# Altium integrated library TI Data Converters Analog to Digital Converter.IntLib: 2197 symbols (part 145 of 168)
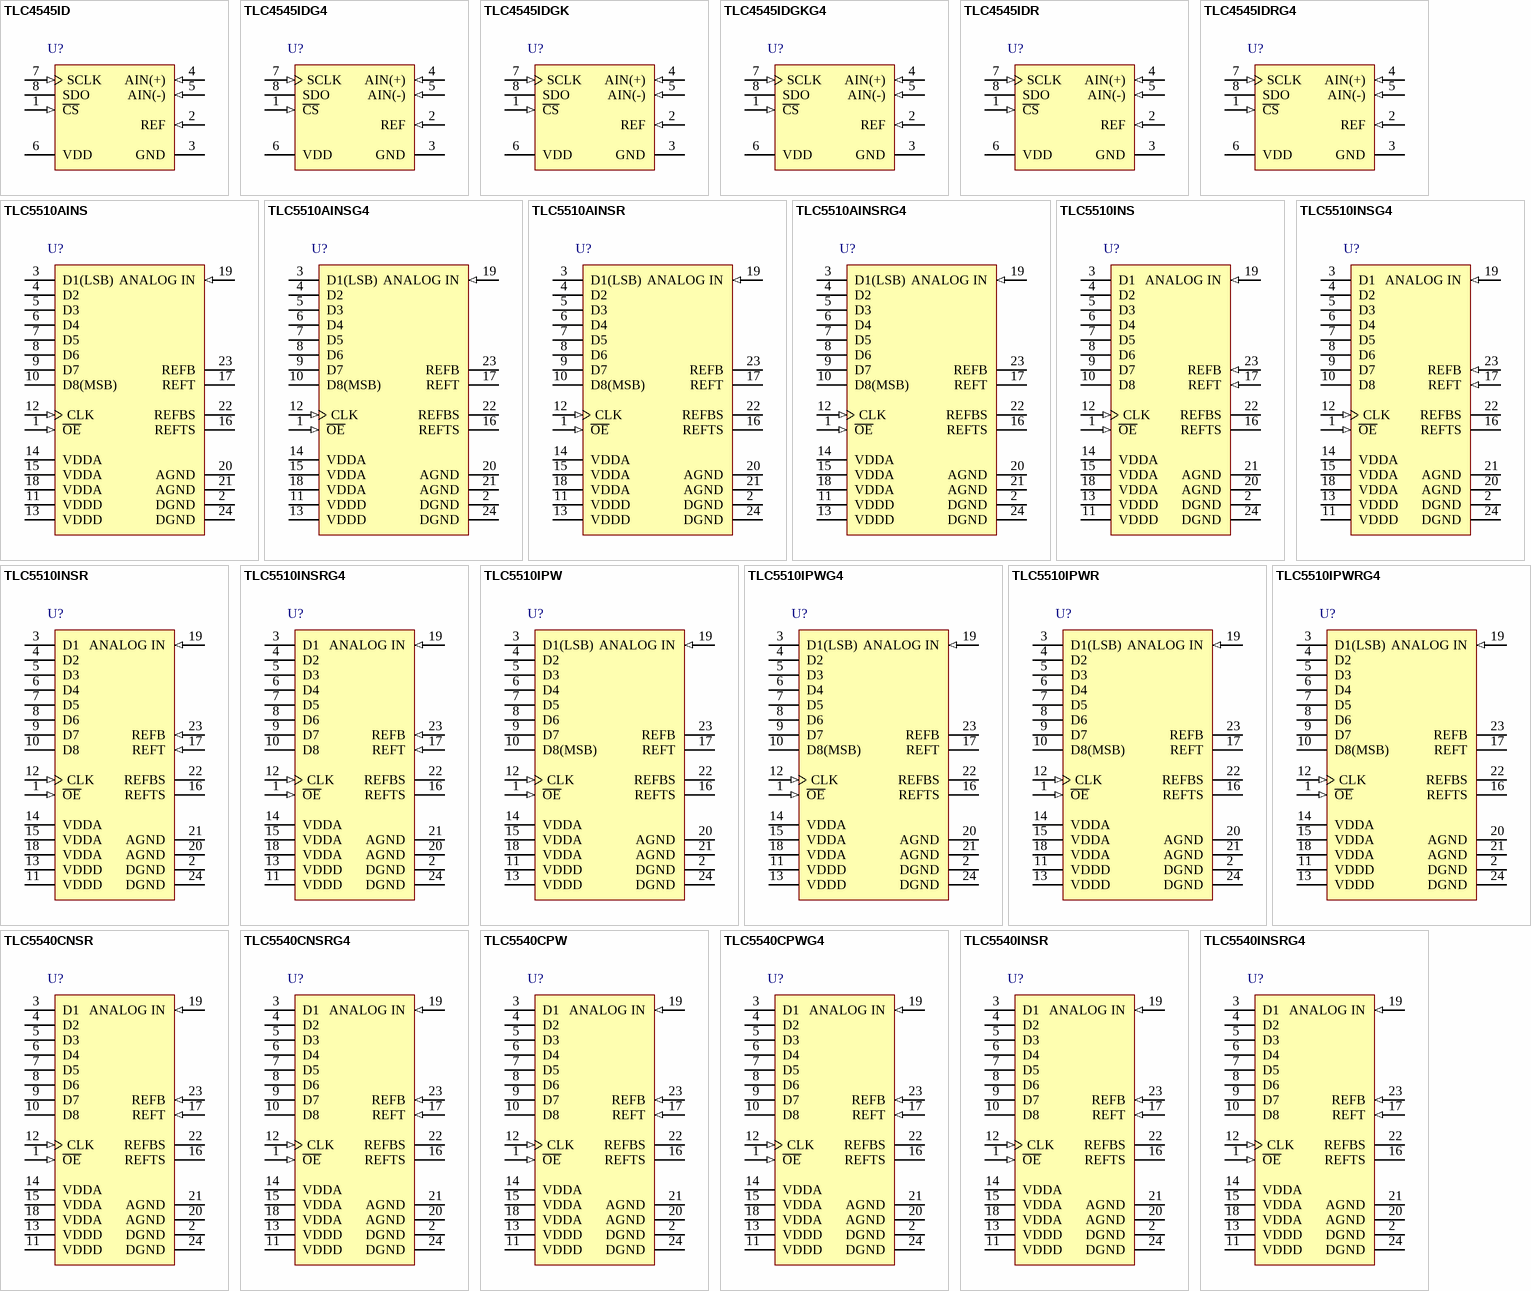
[diagram p270: symbols TLC4545ID to TLC5540INSRG4]

## TLC5510INS
designator U?
8-Bit, 20 MSPS ADC Single Channel, Internal S&H, Low Power, -20 to 75 degC, 24-pin SOP (NS24), Green (RoHS & no Sb/Br); Manufacturer: Texas Instruments; PartNumber: TLC5510INS; # Input Channels: 1; Analog Voltage AV/DD(Max)(V): 5.25; Analog Voltage AV/DD(Min)(V): 4.75; Architecture: Flash; Interface: Parallel CMOS; Resolution(Bits): 8; Sample Rate (max)(SPS): 20M; SFDR(dB): 45; SNR(dB): 46; SubFamily: High Speed ADC (>10MSPS); DatasheetVersion: SLAS095L; PackageVersion: 4040062/C, 03/2003; PackageReference: NS24; PackageDescription: 24-Pin Plastic Small-Outline Package, Body 15 x 5.3 mm, Pitch 1.27 mm; Supplier 1: Digi-Key; Supplier Part Number 1: ADS1130IPWR-ND; Supplier 2: Mouser; Supplier Part Number 2: 595-ADS1130IPWR; Digital Supply(Max)(V): 5.25; Digital Supply(Min)(V): 4.75; Eco-Plan: Green (RoHS & no Sb/Br); INL(Max)(+/-LSB): 1; Mounting Technology: Surface Mount; ComponentLink1Description: Manufacturer URL; ComponentLink1URL: http://www.ti.com/; ComponentLink2Description: Datasheet; ComponentLink2URL: http://www.ti.com/general/docs/lit/getliterature.tsp?genericPartNumber=TLC5510&fileType=pdf; ComponentLink3Description: Package Specification; ComponentLink3URL: http://www.ti.com/litv/pdf/msop002a
footprint TI-NS24_N (SOP, 24-Leads, Body 15x5.3mm, Pitch 1.27mm, IPC Medium Density)
footprint TI-NS24_L (SOP, 24-Leads, Body 15x5.3mm, Pitch 1.27mm, IPC High Density)
footprint TI-NS24_M (SOP, 24-Leads, Body 15x5.3mm, Pitch 1.27mm, IPC Low Density)
pins: 1 ~{OE} (in) "Output enable. When O\E\ = low, data is enabled. When O\E\ = high, D1-D8 is in high-impedance state.", 2 DGND (power) "Digital ground", 3 D1 (hiz) "Digital data out. D1 = LSB", 4 D2 (hiz) "Digital data out.", 5 D3 (hiz) "Digital data out.", 6 D4 (hiz) "Digital data out.", 7 D5 (hiz) "Digital data out.", 8 D6 (hiz) "Digital data out.", 9 D7 (hiz) "Digital data out.", 10 D8 (hiz) "Digital data out. D8=MSB", 11 VDDD (power) "Digital supply voltage", 12 CLK (in) "Clock input", 13 VDDD (power) "Digital supply voltage", 14 VDDA (power) "Analog supply voltage", 15 VDDA (power) "Analog supply voltage", 16 REFTS "Reference voltage (top).", 17 REFT (in) "Reference voltage in top", 18 VDDA (power) "Analog supply voltage", 19 ANALOG IN (in) "Analog input", 20 AGND (power) "Analog ground", 21 AGND (power) "Analog ground", 22 REFBS "Reference voltage (bottom).", 23 REFB (in) "Reference voltage in bottom", 24 DGND (power) "Digital ground"

## TLC5510INSG4
designator U?
8-Bit, 20 MSPS ADC Single Channel, Internal S&H, Low Power, -20 to 75 degC, 24-pin SOP (NS24), Green (RoHS & no Sb/Br); Manufacturer: Texas Instruments; PartNumber: TLC5510INSG4; # Input Channels: 1; Analog Voltage AV/DD(Max)(V): 5.25; Analog Voltage AV/DD(Min)(V): 4.75; Architecture: Flash; Interface: Parallel CMOS; Resolution(Bits): 8; Sample Rate (max)(SPS): 20M; SFDR(dB): 45; SNR(dB): 46; SubFamily: High Speed ADC (>10MSPS); DatasheetVersion: SLAS095L; PackageVersion: 4040062/C, 03/2003; PackageReference: NS24; PackageDescription: 24-Pin Plastic Small-Outline Package, Body 15 x 5.3 mm, Pitch 1.27 mm; Supplier 1: Digi-Key; Supplier Part Number 1: 296-32813-5-ND; Supplier 2: Farnell; Supplier Part Number 2: 2064217; Supplier 3: Newark; Supplier Part Number 3: 64T2833; Supplier 4: Mouser; Supplier Part Number 4: 595-ADS1131ID; Digital Supply(Max)(V): 5.25; Digital Supply(Min)(V): 4.75; Eco-Plan: Green (RoHS & no Sb/Br); INL(Max)(+/-LSB): 1; Mounting Technology: Surface Mount; ComponentLink1Description: Manufacturer URL; ComponentLink1URL: http://www.ti.com/; ComponentLink2Description: Datasheet; ComponentLink2URL: http://www.ti.com/general/docs/lit/getliterature.tsp?genericPartNumber=TLC5510&fileType=pdf; ComponentLink3Description: Package Specification; ComponentLink3URL: http://www.ti.com/litv/pdf/msop002a
footprint TI-NS24_N (SOP, 24-Leads, Body 15x5.3mm, Pitch 1.27mm, IPC Medium Density)
footprint TI-NS24_L (SOP, 24-Leads, Body 15x5.3mm, Pitch 1.27mm, IPC High Density)
footprint TI-NS24_M (SOP, 24-Leads, Body 15x5.3mm, Pitch 1.27mm, IPC Low Density)
pins: 1 ~{OE} (in) "Output enable. When O\E\ = low, data is enabled. When O\E\ = high, D1-D8 is in high-impedance state.", 2 DGND (power) "Digital ground", 3 D1 (hiz) "Digital data out. D1 = LSB", 4 D2 (hiz) "Digital data out.", 5 D3 (hiz) "Digital data out.", 6 D4 (hiz) "Digital data out.", 7 D5 (hiz) "Digital data out.", 8 D6 (hiz) "Digital data out.", 9 D7 (hiz) "Digital data out.", 10 D8 (hiz) "Digital data out. D8=MSB", 11 VDDD (power) "Digital supply voltage", 12 CLK (in) "Clock input", 13 VDDD (power) "Digital supply voltage", 14 VDDA (power) "Analog supply voltage", 15 VDDA (power) "Analog supply voltage", 16 REFTS "Reference voltage (top).", 17 REFT (in) "Reference voltage in top", 18 VDDA (power) "Analog supply voltage", 19 ANALOG IN (in) "Analog input", 20 AGND (power) "Analog ground", 21 AGND (power) "Analog ground", 22 REFBS "Reference voltage (bottom).", 23 REFB (in) "Reference voltage in bottom", 24 DGND (power) "Digital ground"

## TLC5510INSR
designator U?
8-Bit, 20 MSPS ADC Single Channel, Internal S&H, Low Power, -20 to 75 degC, 24-pin SOP (NS24), Green (RoHS & no Sb/Br); Manufacturer: Texas Instruments; PartNumber: TLC5510INSR; # Input Channels: 1; Analog Voltage AV/DD(Max)(V): 5.25; Analog Voltage AV/DD(Min)(V): 4.75; Architecture: Flash; Interface: Parallel CMOS; Resolution(Bits): 8; Sample Rate (max)(SPS): 20M; SFDR(dB): 45; SNR(dB): 46; SubFamily: High Speed ADC (>10MSPS); DatasheetVersion: SLAS095L; PackageVersion: 4040062/C, 03/2003; PackageReference: NS24; PackageDescription: 24-Pin Plastic Small-Outline Package, Body 15 x 5.3 mm, Pitch 1.27 mm; Supplier 1: Digi-Key; Supplier Part Number 1: 296-29591-2-ND; Supplier 2: Digi-Key; Supplier Part Number 2: 296-29591-1-ND; Supplier 3: Digi-Key; Supplier Part Number 3: 296-29591-6-ND; Supplier 4: Newark; Supplier Part Number 4: 64T2834; Supplier 5: Mouser; Supplier Part Number 5: 595-ADS1131IDR; Digital Supply(Max)(V): 5.25; Digital Supply(Min)(V): 4.75; Eco-Plan: Green (RoHS & no Sb/Br); INL(Max)(+/-LSB): 1; Mounting Technology: Surface Mount; ComponentLink1Description: Manufacturer URL; ComponentLink1URL: http://www.ti.com/; ComponentLink2Description: Datasheet; ComponentLink2URL: http://www.ti.com/general/docs/lit/getliterature.tsp?genericPartNumber=TLC5510&fileType=pdf; ComponentLink3Description: Package Specification; ComponentLink3URL: http://www.ti.com/litv/pdf/msop002a
footprint TI-NS24_N (SOP, 24-Leads, Body 15x5.3mm, Pitch 1.27mm, IPC Medium Density)
footprint TI-NS24_L (SOP, 24-Leads, Body 15x5.3mm, Pitch 1.27mm, IPC High Density)
footprint TI-NS24_M (SOP, 24-Leads, Body 15x5.3mm, Pitch 1.27mm, IPC Low Density)
pins: 1 ~{OE} (in) "Output enable. When O\E\ = low, data is enabled. When O\E\ = high, D1-D8 is in high-impedance state.", 2 DGND (power) "Digital ground", 3 D1 (hiz) "Digital data out. D1 = LSB", 4 D2 (hiz) "Digital data out.", 5 D3 (hiz) "Digital data out.", 6 D4 (hiz) "Digital data out.", 7 D5 (hiz) "Digital data out.", 8 D6 (hiz) "Digital data out.", 9 D7 (hiz) "Digital data out.", 10 D8 (hiz) "Digital data out. D8=MSB", 11 VDDD (power) "Digital supply voltage", 12 CLK (in) "Clock input", 13 VDDD (power) "Digital supply voltage", 14 VDDA (power) "Analog supply voltage", 15 VDDA (power) "Analog supply voltage", 16 REFTS "Reference voltage (top).", 17 REFT (in) "Reference voltage in top", 18 VDDA (power) "Analog supply voltage", 19 ANALOG IN (in) "Analog input", 20 AGND (power) "Analog ground", 21 AGND (power) "Analog ground", 22 REFBS "Reference voltage (bottom).", 23 REFB (in) "Reference voltage in bottom", 24 DGND (power) "Digital ground"

## TLC5510INSRG4
designator U?
8-Bit, 20 MSPS ADC Single Channel, Internal S&H, Low Power, -20 to 75 degC, 24-pin SOP (NS24), Green (RoHS & no Sb/Br); Manufacturer: Texas Instruments; PartNumber: TLC5510INSRG4; # Input Channels: 1; Analog Voltage AV/DD(Max)(V): 5.25; Analog Voltage AV/DD(Min)(V): 4.75; Architecture: Flash; Interface: Parallel CMOS; Resolution(Bits): 8; Sample Rate (max)(SPS): 20M; SFDR(dB): 45; SNR(dB): 46; SubFamily: High Speed ADC (>10MSPS); DatasheetVersion: SLAS095L; PackageVersion: 4040062/C, 03/2003; PackageReference: NS24; PackageDescription: 24-Pin Plastic Small-Outline Package, Body 15 x 5.3 mm, Pitch 1.27 mm; Supplier 1: Digi-Key; Supplier Part Number 1: 296-33283-5-ND; Supplier 2: Farnell; Supplier Part Number 2: 2284315; Supplier 3: Newark; Supplier Part Number 3: 06F7375; Supplier 4: Mouser; Supplier Part Number 4: 595-ICL7135CN; Digital Supply(Max)(V): 5.25; Digital Supply(Min)(V): 4.75; Eco-Plan: Green (RoHS & no Sb/Br); INL(Max)(+/-LSB): 1; Mounting Technology: Surface Mount; ComponentLink1Description: Manufacturer URL; ComponentLink1URL: http://www.ti.com/; ComponentLink2Description: Datasheet; ComponentLink2URL: http://www.ti.com/general/docs/lit/getliterature.tsp?genericPartNumber=TLC5510&fileType=pdf; ComponentLink3Description: Package Specification; ComponentLink3URL: http://www.ti.com/litv/pdf/msop002a
footprint TI-NS24_N (SOP, 24-Leads, Body 15x5.3mm, Pitch 1.27mm, IPC Medium Density)
footprint TI-NS24_L (SOP, 24-Leads, Body 15x5.3mm, Pitch 1.27mm, IPC High Density)
footprint TI-NS24_M (SOP, 24-Leads, Body 15x5.3mm, Pitch 1.27mm, IPC Low Density)
pins: 1 ~{OE} (in) "Output enable. When O\E\ = low, data is enabled. When O\E\ = high, D1-D8 is in high-impedance state.", 2 DGND (power) "Digital ground", 3 D1 (hiz) "Digital data out. D1 = LSB", 4 D2 (hiz) "Digital data out.", 5 D3 (hiz) "Digital data out.", 6 D4 (hiz) "Digital data out.", 7 D5 (hiz) "Digital data out.", 8 D6 (hiz) "Digital data out.", 9 D7 (hiz) "Digital data out.", 10 D8 (hiz) "Digital data out. D8=MSB", 11 VDDD (power) "Digital supply voltage", 12 CLK (in) "Clock input", 13 VDDD (power) "Digital supply voltage", 14 VDDA (power) "Analog supply voltage", 15 VDDA (power) "Analog supply voltage", 16 REFTS "Reference voltage (top).", 17 REFT (in) "Reference voltage in top", 18 VDDA (power) "Analog supply voltage", 19 ANALOG IN (in) "Analog input", 20 AGND (power) "Analog ground", 21 AGND (power) "Analog ground", 22 REFBS "Reference voltage (bottom).", 23 REFB (in) "Reference voltage in bottom", 24 DGND (power) "Digital ground"

## TLC5510IPW
designator U?
8-Bit, 20 MSPS ADC Single Channel, Internal S&H, Low Power, -20 to 75 degC, 24-pin SOP (PW24), Green (RoHS & no Sb/Br); Manufacturer: Texas Instruments; PartNumber: TLC5510IPW; # Input Channels: 1; Analog Voltage AV/DD(Max)(V): 5.25; Analog Voltage AV/DD(Min)(V): 4.75; Architecture: Flash; Interface: Parallel CMOS; Resolution(Bits): 8; Sample Rate (max)(SPS): 20M; SFDR(dB): 45; SNR(dB): 46; SubFamily: High Speed ADC (>10MSPS); DatasheetVersion: SLAS095L; PackageVersion: 4040064-6/G, 02/2011; PackageReference: PW24; PackageDescription: 24-Pin Plastic Small Outline, Body 7.8 x 4.4 mm, Pitch 0.65 mm; Supplier 1: Digi-Key; Supplier Part Number 1: ICL7135CNG4-ND; Supplier 2: Farnell; Supplier Part Number 2: 1358140; Supplier 3: Newark; Supplier Part Number 3: 23T0953; Supplier 4: Newark; Supplier Part Number 4: 41M3300; Supplier 5: Mouser; Supplier Part Number 5: 595-ICL7135CNG4; Digital Supply(Max)(V): 5.25; Digital Supply(Min)(V): 4.75; Eco-Plan: Green (RoHS & no Sb/Br); INL(Max)(+/-LSB): 1; Mounting Technology: Surface Mount; Code_JEDEC: MO-153; ComponentLink1Description: Manufacturer URL; ComponentLink1URL: http://www.ti.com/; ComponentLink2Description: Datasheet; ComponentLink2URL: http://www.ti.com/general/docs/lit/getliterature.tsp?genericPartNumber=TLC5510&fileType=pdf; ComponentLink3Description: Package Specification; ComponentLink3URL: http://www.ti.com/litv/pdf/mpds363
footprint TI-PW24_N (SOP, 24-Leads, Body 7.8x4.4mm, Pitch 0.65mm, IPC Medium Density)
footprint TI-PW24_L (SOP, 24-Leads, Body 7.8x4.4mm, Pitch 0.65mm, IPC High Density)
footprint TI-PW24_M (SOP, 24-Leads, Body 7.8x4.4mm, Pitch 0.65mm, IPC Low Density)
pins: 1 ~{OE} (in) "Output enable. When O\E\ = low, data is enabled. When O\E\ = high, D1-D8 is in high-impedance state.", 2 DGND (power) "Digital ground", 3 D1(LSB) (hiz) "Digital data out. D1 = LSB", 4 D2 (hiz) "Digital data out.", 5 D3 (hiz) "Digital data out.", 6 D4 (hiz) "Digital data out.", 7 D5 (hiz) "Digital data out.", 8 D6 (hiz) "Digital data out.", 9 D7 (hiz) "Digital data out.", 10 D8(MSB) (hiz) "Digital data out. D8 = MSB", 11 VDDD (power) "Digital supply voltage", 12 CLK (in) "Clock input", 13 VDDD (power) "Digital supply voltage", 14 VDDA (power) "Analog supply voltage", 15 VDDA (power) "Analog supply voltage", 16 REFTS "Reference voltage in top. When using the TLC5510 internal voltage divider to generate a nominal 2-V reference, REFTS is shorted to REFT (see Figure 3). When using the TLC5510A, REFTS is connected to VDDA.", 17 REFT "Reference voltage in top", 18 VDDA (power) "Analog supply voltage", 19 ANALOG IN (in) "Analog input", 20 AGND (power) "Analog ground", 21 AGND (power) "Analog ground", 22 REFBS "Reference voltage in bottom. When using the TLC5510 internal voltage divider to generate a nominal 2-V reference, REFBS is shorted to REFB (see Figure 3). When using the TLC5510A, REFBS is connected to ground.", 23 REFB "Reference voltage in bottom", 24 DGND (power) "Digital ground"

## TLC5510IPWG4
designator U?
8-Bit, 20 MSPS ADC Single Channel, Internal S&H, Low Power, -20 to 75 degC, 24-pin SOP (PW24), Green (RoHS & no Sb/Br); Manufacturer: Texas Instruments; PartNumber: TLC5510IPWG4; # Input Channels: 1; Analog Voltage AV/DD(Max)(V): 5.25; Analog Voltage AV/DD(Min)(V): 4.75; Architecture: Flash; Interface: Parallel CMOS; Resolution(Bits): 8; Sample Rate (max)(SPS): 20M; SFDR(dB): 45; SNR(dB): 46; SubFamily: High Speed ADC (>10MSPS); DatasheetVersion: SLAS095L; PackageVersion: 4040064-6/G, 02/2011; PackageReference: PW24; PackageDescription: 24-Pin Plastic Small Outline, Body 7.8 x 4.4 mm, Pitch 0.65 mm; Supplier 1: Digi-Key; Supplier Part Number 1: DDC232CGXGR-ND; Supplier 2: Newark; Supplier Part Number 2: 18M7216; Supplier 3: Mouser; Supplier Part Number 3: 595-DDC232CGXGR; Digital Supply(Max)(V): 5.25; Digital Supply(Min)(V): 4.75; Eco-Plan: Green (RoHS & no Sb/Br); INL(Max)(+/-LSB): 1; Mounting Technology: Surface Mount; Code_JEDEC: MO-153; ComponentLink1Description: Manufacturer URL; ComponentLink1URL: http://www.ti.com/; ComponentLink2Description: Datasheet; ComponentLink2URL: http://www.ti.com/general/docs/lit/getliterature.tsp?genericPartNumber=TLC5510&fileType=pdf; ComponentLink3Description: Package Specification; ComponentLink3URL: http://www.ti.com/litv/pdf/mpds363
footprint TI-PW24_N (SOP, 24-Leads, Body 7.8x4.4mm, Pitch 0.65mm, IPC Medium Density)
footprint TI-PW24_L (SOP, 24-Leads, Body 7.8x4.4mm, Pitch 0.65mm, IPC High Density)
footprint TI-PW24_M (SOP, 24-Leads, Body 7.8x4.4mm, Pitch 0.65mm, IPC Low Density)
pins: 1 ~{OE} (in) "Output enable. When O\E\ = low, data is enabled. When O\E\ = high, D1-D8 is in high-impedance state.", 2 DGND (power) "Digital ground", 3 D1(LSB) (hiz) "Digital data out. D1 = LSB", 4 D2 (hiz) "Digital data out.", 5 D3 (hiz) "Digital data out.", 6 D4 (hiz) "Digital data out.", 7 D5 (hiz) "Digital data out.", 8 D6 (hiz) "Digital data out.", 9 D7 (hiz) "Digital data out.", 10 D8(MSB) (hiz) "Digital data out. D8 = MSB", 11 VDDD (power) "Digital supply voltage", 12 CLK (in) "Clock input", 13 VDDD (power) "Digital supply voltage", 14 VDDA (power) "Analog supply voltage", 15 VDDA (power) "Analog supply voltage", 16 REFTS "Reference voltage in top. When using the TLC5510 internal voltage divider to generate a nominal 2-V reference, REFTS is shorted to REFT (see Figure 3). When using the TLC5510A, REFTS is connected to VDDA.", 17 REFT "Reference voltage in top", 18 VDDA (power) "Analog supply voltage", 19 ANALOG IN (in) "Analog input", 20 AGND (power) "Analog ground", 21 AGND (power) "Analog ground", 22 REFBS "Reference voltage in bottom. When using the TLC5510 internal voltage divider to generate a nominal 2-V reference, REFBS is shorted to REFB (see Figure 3). When using the TLC5510A, REFBS is connected to ground.", 23 REFB "Reference voltage in bottom", 24 DGND (power) "Digital ground"

## TLC5510IPWR
designator U?
8-Bit, 20 MSPS ADC Single Channel, Internal S&H, Low Power, -20 to 75 degC, 24-pin SOP (PW24), Green (RoHS & no Sb/Br); Manufacturer: Texas Instruments; PartNumber: TLC5510IPWR; # Input Channels: 1; Analog Voltage AV/DD(Max)(V): 5.25; Analog Voltage AV/DD(Min)(V): 4.75; Architecture: Flash; Interface: Parallel CMOS; Resolution(Bits): 8; Sample Rate (max)(SPS): 20M; SFDR(dB): 45; SNR(dB): 46; SubFamily: High Speed ADC (>10MSPS); DatasheetVersion: SLAS095L; PackageVersion: 4040064-6/G, 02/2011; PackageReference: PW24; PackageDescription: 24-Pin Plastic Small Outline, Body 7.8 x 4.4 mm, Pitch 0.65 mm; Supplier 1: Digi-Key; Supplier Part Number 1: 296-21225-2-ND; Supplier 2: Digi-Key; Supplier Part Number 2: 296-21225-1-ND; Supplier 3: Newark; Supplier Part Number 3: 18M4682; Supplier 4: Mouser; Supplier Part Number 4: 595-DDC232CGXGT; Digital Supply(Max)(V): 5.25; Digital Supply(Min)(V): 4.75; Eco-Plan: Green (RoHS & no Sb/Br); INL(Max)(+/-LSB): 1; Mounting Technology: Surface Mount; Code_JEDEC: MO-153; ComponentLink1Description: Manufacturer URL; ComponentLink1URL: http://www.ti.com/; ComponentLink2Description: Datasheet; ComponentLink2URL: http://www.ti.com/general/docs/lit/getliterature.tsp?genericPartNumber=TLC5510&fileType=pdf; ComponentLink3Description: Package Specification; ComponentLink3URL: http://www.ti.com/litv/pdf/mpds363
footprint TI-PW24_N (SOP, 24-Leads, Body 7.8x4.4mm, Pitch 0.65mm, IPC Medium Density)
footprint TI-PW24_L (SOP, 24-Leads, Body 7.8x4.4mm, Pitch 0.65mm, IPC High Density)
footprint TI-PW24_M (SOP, 24-Leads, Body 7.8x4.4mm, Pitch 0.65mm, IPC Low Density)
pins: 1 ~{OE} (in) "Output enable. When O\E\ = low, data is enabled. When O\E\ = high, D1-D8 is in high-impedance state.", 2 DGND (power) "Digital ground", 3 D1(LSB) (hiz) "Digital data out. D1 = LSB", 4 D2 (hiz) "Digital data out.", 5 D3 (hiz) "Digital data out.", 6 D4 (hiz) "Digital data out.", 7 D5 (hiz) "Digital data out.", 8 D6 (hiz) "Digital data out.", 9 D7 (hiz) "Digital data out.", 10 D8(MSB) (hiz) "Digital data out. D8 = MSB", 11 VDDD (power) "Digital supply voltage", 12 CLK (in) "Clock input", 13 VDDD (power) "Digital supply voltage", 14 VDDA (power) "Analog supply voltage", 15 VDDA (power) "Analog supply voltage", 16 REFTS "Reference voltage in top. When using the TLC5510 internal voltage divider to generate a nominal 2-V reference, REFTS is shorted to REFT (see Figure 3). When using the TLC5510A, REFTS is connected to VDDA.", 17 REFT "Reference voltage in top", 18 VDDA (power) "Analog supply voltage", 19 ANALOG IN (in) "Analog input", 20 AGND (power) "Analog ground", 21 AGND (power) "Analog ground", 22 REFBS "Reference voltage in bottom. When using the TLC5510 internal voltage divider to generate a nominal 2-V reference, REFBS is shorted to REFB (see Figure 3). When using the TLC5510A, REFBS is connected to ground.", 23 REFB "Reference voltage in bottom", 24 DGND (power) "Digital ground"

## TLC5510IPWRG4
designator U?
8-Bit, 20 MSPS ADC Single Channel, Internal S&H, Low Power, -20 to 75 degC, 24-pin SOP (PW24), Green (RoHS & no Sb/Br); Manufacturer: Texas Instruments; PartNumber: TLC5510IPWRG4; # Input Channels: 1; Analog Voltage AV/DD(Max)(V): 5.25; Analog Voltage AV/DD(Min)(V): 4.75; Architecture: Flash; Interface: Parallel CMOS; Resolution(Bits): 8; Sample Rate (max)(SPS): 20M; SFDR(dB): 45; SNR(dB): 46; SubFamily: High Speed ADC (>10MSPS); DatasheetVersion: SLAS095L; PackageVersion: 4040064-6/G, 02/2011; PackageReference: PW24; PackageDescription: 24-Pin Plastic Small Outline, Body 7.8 x 4.4 mm, Pitch 0.65 mm; Supplier 1: Digi-Key; Supplier Part Number 1: DDC232CKZXGR-ND; Supplier 2: Mouser; Supplier Part Number 2: 595-DDC232CKZXGR; Digital Supply(Max)(V): 5.25; Digital Supply(Min)(V): 4.75; Eco-Plan: Green (RoHS & no Sb/Br); INL(Max)(+/-LSB): 1; Mounting Technology: Surface Mount; Code_JEDEC: MO-153; ComponentLink1Description: Manufacturer URL; ComponentLink1URL: http://www.ti.com/; ComponentLink2Description: Datasheet; ComponentLink2URL: http://www.ti.com/general/docs/lit/getliterature.tsp?genericPartNumber=TLC5510&fileType=pdf; ComponentLink3Description: Package Specification; ComponentLink3URL: http://www.ti.com/litv/pdf/mpds363
footprint TI-PW24_N (SOP, 24-Leads, Body 7.8x4.4mm, Pitch 0.65mm, IPC Medium Density)
footprint TI-PW24_L (SOP, 24-Leads, Body 7.8x4.4mm, Pitch 0.65mm, IPC High Density)
footprint TI-PW24_M (SOP, 24-Leads, Body 7.8x4.4mm, Pitch 0.65mm, IPC Low Density)
pins: 1 ~{OE} (in) "Output enable. When O\E\ = low, data is enabled. When O\E\ = high, D1-D8 is in high-impedance state.", 2 DGND (power) "Digital ground", 3 D1(LSB) (hiz) "Digital data out. D1 = LSB", 4 D2 (hiz) "Digital data out.", 5 D3 (hiz) "Digital data out.", 6 D4 (hiz) "Digital data out.", 7 D5 (hiz) "Digital data out.", 8 D6 (hiz) "Digital data out.", 9 D7 (hiz) "Digital data out.", 10 D8(MSB) (hiz) "Digital data out. D8 = MSB", 11 VDDD (power) "Digital supply voltage", 12 CLK (in) "Clock input", 13 VDDD (power) "Digital supply voltage", 14 VDDA (power) "Analog supply voltage", 15 VDDA (power) "Analog supply voltage", 16 REFTS "Reference voltage in top. When using the TLC5510 internal voltage divider to generate a nominal 2-V reference, REFTS is shorted to REFT (see Figure 3). When using the TLC5510A, REFTS is connected to VDDA.", 17 REFT "Reference voltage in top", 18 VDDA (power) "Analog supply voltage", 19 ANALOG IN (in) "Analog input", 20 AGND (power) "Analog ground", 21 AGND (power) "Analog ground", 22 REFBS "Reference voltage in bottom. When using the TLC5510 internal voltage divider to generate a nominal 2-V reference, REFBS is shorted to REFB (see Figure 3). When using the TLC5510A, REFBS is connected to ground.", 23 REFB "Reference voltage in bottom", 24 DGND (power) "Digital ground"

## TLC5540CNSR
designator U?
8-Bit, 40 MSPS ADC Single Channel, Internal S&H, Low Power, 0 to 70 degC, 24-pin SOP (NS24), Green (RoHS & no Sb/Br); Manufacturer: Texas Instruments; PartNumber: TLC5540CNSR; # Input Channels: 1; Analog Voltage AV/DD(Max)(V): 5.25; Analog Voltage AV/DD(Min)(V): 4.75; Architecture: Flash; ENOB(Bits): 6.8; Interface: Parallel CMOS; Resolution(Bits): 8; Sample Rate (max)(SPS): 40M; SFDR(dB): 42; SNR(dB): 44; SubFamily: High Speed ADC (>10MSPS); DatasheetVersion: SLAS105D; PackageVersion: 4040062/C, 03/2003; PackageReference: NS24; PackageDescription: 24-Pin Plastic Small-Outline Package, Body 15 x 5.3 mm, Pitch 1.27 mm; Supplier 1: Digi-Key; Supplier Part Number 1: 296-27544-2-ND; Supplier 2: Digi-Key; Supplier Part Number 2: 296-27544-1-ND; Supplier 3: Digi-Key; Supplier Part Number 3: 296-27544-6-ND; Supplier 4: Newark; Supplier Part Number 4: 79R7948; Supplier 5: Mouser; Supplier Part Number 5: 595-DDC232CKZXGT; Digital Supply(Max)(V): 5.25; Digital Supply(Min)(V): 4.75; Eco-Plan: Green (RoHS & no Sb/Br); INL(Max)(+/-LSB): 1; Mounting Technology: Surface Mount; ComponentLink1Description: Manufacturer URL; ComponentLink1URL: http://www.ti.com/; ComponentLink2Description: Datasheet; ComponentLink2URL: http://www.ti.com/general/docs/lit/getliterature.tsp?genericPartNumber=TLC5540&fileType=pdf; ComponentLink3Description: Package Specification; ComponentLink3URL: http://www.ti.com/litv/pdf/msop002a
footprint TI-NS24_N (SOP, 24-Leads, Body 15x5.3mm, Pitch 1.27mm, IPC Medium Density)
footprint TI-NS24_L (SOP, 24-Leads, Body 15x5.3mm, Pitch 1.27mm, IPC High Density)
footprint TI-NS24_M (SOP, 24-Leads, Body 15x5.3mm, Pitch 1.27mm, IPC Low Density)
pins: 1 ~{OE} (in) "Output enable. When O\E\ = low, data is enabled. When O\E\ = high, D1-D8 is in high-impedance state.", 2 DGND (power) "Digital ground", 3 D1 (hiz) "Digital data out. D1 = LSB", 4 D2 (hiz) "Digital data out.", 5 D3 (hiz) "Digital data out.", 6 D4 (hiz) "Digital data out.", 7 D5 (hiz) "Digital data out.", 8 D6 (hiz) "Digital data out.", 9 D7 (hiz) "Digital data out.", 10 D8 (hiz) "Digital data out. D8=MSB", 11 VDDD (power) "Digital supply voltage", 12 CLK (in) "Clock input", 13 VDDD (power) "Digital supply voltage", 14 VDDA (power) "Analog supply voltage", 15 VDDA (power) "Analog supply voltage", 16 REFTS "Reference voltage (top).", 17 REFT (in) "Reference voltage in top", 18 VDDA (power) "Analog supply voltage", 19 ANALOG IN (in) "Analog input", 20 AGND (power) "Analog ground", 21 AGND (power) "Analog ground", 22 REFBS "Reference voltage (bottom).", 23 REFB (in) "Reference voltage in bottom", 24 DGND (power) "Digital ground"

## TLC5540CNSRG4
designator U?
8-Bit, 40 MSPS ADC Single Channel, Internal S&H, Low Power, 0 to 70 degC, 24-pin SOP (NS24), Green (RoHS & no Sb/Br); Manufacturer: Texas Instruments; PartNumber: TLC5540CNSRG4; # Input Channels: 1; Analog Voltage AV/DD(Max)(V): 5.25; Analog Voltage AV/DD(Min)(V): 4.75; Architecture: Flash; ENOB(Bits): 6.8; Interface: Parallel CMOS; Resolution(Bits): 8; Sample Rate (max)(SPS): 40M; SFDR(dB): 42; SNR(dB): 44; SubFamily: High Speed ADC (>10MSPS); DatasheetVersion: SLAS105D; PackageVersion: 4040062/C, 03/2003; PackageReference: NS24; PackageDescription: 24-Pin Plastic Small-Outline Package, Body 15 x 5.3 mm, Pitch 1.27 mm; Supplier 1: Digi-Key; Supplier Part Number 1: DDC232CZXGR-ND; Supplier 2: Mouser; Supplier Part Number 2: 595-DDC232CZXGR; Digital Supply(Max)(V): 5.25; Digital Supply(Min)(V): 4.75; Eco-Plan: Green (RoHS & no Sb/Br); INL(Max)(+/-LSB): 1; Mounting Technology: Surface Mount; ComponentLink1Description: Manufacturer URL; ComponentLink1URL: http://www.ti.com/; ComponentLink2Description: Datasheet; ComponentLink2URL: http://www.ti.com/general/docs/lit/getliterature.tsp?genericPartNumber=TLC5540&fileType=pdf; ComponentLink3Description: Package Specification; ComponentLink3URL: http://www.ti.com/litv/pdf/msop002a
footprint TI-NS24_N (SOP, 24-Leads, Body 15x5.3mm, Pitch 1.27mm, IPC Medium Density)
footprint TI-NS24_L (SOP, 24-Leads, Body 15x5.3mm, Pitch 1.27mm, IPC High Density)
footprint TI-NS24_M (SOP, 24-Leads, Body 15x5.3mm, Pitch 1.27mm, IPC Low Density)
pins: 1 ~{OE} (in) "Output enable. When O\E\ = low, data is enabled. When O\E\ = high, D1-D8 is in high-impedance state.", 2 DGND (power) "Digital ground", 3 D1 (hiz) "Digital data out. D1 = LSB", 4 D2 (hiz) "Digital data out.", 5 D3 (hiz) "Digital data out.", 6 D4 (hiz) "Digital data out.", 7 D5 (hiz) "Digital data out.", 8 D6 (hiz) "Digital data out.", 9 D7 (hiz) "Digital data out.", 10 D8 (hiz) "Digital data out. D8=MSB", 11 VDDD (power) "Digital supply voltage", 12 CLK (in) "Clock input", 13 VDDD (power) "Digital supply voltage", 14 VDDA (power) "Analog supply voltage", 15 VDDA (power) "Analog supply voltage", 16 REFTS "Reference voltage (top).", 17 REFT (in) "Reference voltage in top", 18 VDDA (power) "Analog supply voltage", 19 ANALOG IN (in) "Analog input", 20 AGND (power) "Analog ground", 21 AGND (power) "Analog ground", 22 REFBS "Reference voltage (bottom).", 23 REFB (in) "Reference voltage in bottom", 24 DGND (power) "Digital ground"

## TLC5540CPW
designator U?
8-Bit, 40 MSPS ADC Single Channel, Internal S&H, Low Power, 0 to 70 degC, 24-pin SOP (PW24), Green (RoHS & no Sb/Br); Manufacturer: Texas Instruments; PartNumber: TLC5540CPW; # Input Channels: 1; Analog Voltage AV/DD(Max)(V): 5.25; Analog Voltage AV/DD(Min)(V): 4.75; Architecture: Flash; ENOB(Bits): 6.8; Interface: Parallel CMOS; Resolution(Bits): 8; Sample Rate (max)(SPS): 40M; SFDR(dB): 42; SNR(dB): 44; SubFamily: High Speed ADC (>10MSPS); DatasheetVersion: SLAS105D; PackageVersion: 4040064-6/G, 02/2011; PackageReference: PW24; PackageDescription: 24-Pin Plastic Small Outline, Body 7.8 x 4.4 mm, Pitch 0.65 mm; Supplier 1: Digi-Key; Supplier Part Number 1: 296-23858-2-ND; Supplier 2: Digi-Key; Supplier Part Number 2: 296-23858-1-ND; Supplier 3: Digi-Key; Supplier Part Number 3: 296-23858-6-ND; Supplier 4: Mouser; Supplier Part Number 4: 595-DDC232CZXGT; Digital Supply(Max)(V): 5.25; Digital Supply(Min)(V): 4.75; Eco-Plan: Green (RoHS & no Sb/Br); INL(Max)(+/-LSB): 1; Mounting Technology: Surface Mount; Code_JEDEC: MO-153; ComponentLink1Description: Manufacturer URL; ComponentLink1URL: http://www.ti.com/; ComponentLink2Description: Datasheet; ComponentLink2URL: http://www.ti.com/general/docs/lit/getliterature.tsp?genericPartNumber=TLC5540&fileType=pdf; ComponentLink3Description: Package Specification; ComponentLink3URL: http://www.ti.com/litv/pdf/mpds363
footprint TI-PW24_N (SOP, 24-Leads, Body 7.8x4.4mm, Pitch 0.65mm, IPC Medium Density)
footprint TI-PW24_L (SOP, 24-Leads, Body 7.8x4.4mm, Pitch 0.65mm, IPC High Density)
footprint TI-PW24_M (SOP, 24-Leads, Body 7.8x4.4mm, Pitch 0.65mm, IPC Low Density)
pins: 1 ~{OE} (in) "Output enable. When O\E\ = low, data is enabled. When O\E\ = high, D1-D8 is in high-impedance state.", 2 DGND (power) "Digital ground", 3 D1 (hiz) "Digital data out. D1 = LSB", 4 D2 (hiz) "Digital data out.", 5 D3 (hiz) "Digital data out.", 6 D4 (hiz) "Digital data out.", 7 D5 (hiz) "Digital data out.", 8 D6 (hiz) "Digital data out.", 9 D7 (hiz) "Digital data out.", 10 D8 (hiz) "Digital data out. D8=MSB", 11 VDDD (power) "Digital supply voltage", 12 CLK (in) "Clock input", 13 VDDD (power) "Digital supply voltage", 14 VDDA (power) "Analog supply voltage", 15 VDDA (power) "Analog supply voltage", 16 REFTS "Reference voltage (top).", 17 REFT (in) "Reference voltage in top", 18 VDDA (power) "Analog supply voltage", 19 ANALOG IN (in) "Analog input", 20 AGND (power) "Analog ground", 21 AGND (power) "Analog ground", 22 REFBS "Reference voltage (bottom).", 23 REFB (in) "Reference voltage in bottom", 24 DGND (power) "Digital ground"

## TLC5540CPWG4
designator U?
8-Bit, 40 MSPS ADC Single Channel, Internal S&H, Low Power, 0 to 70 degC, 24-pin SOP (PW24), Green (RoHS & no Sb/Br); Manufacturer: Texas Instruments; PartNumber: TLC5540CPWG4; # Input Channels: 1; Analog Voltage AV/DD(Max)(V): 5.25; Analog Voltage AV/DD(Min)(V): 4.75; Architecture: Flash; ENOB(Bits): 6.8; Interface: Parallel CMOS; Resolution(Bits): 8; Sample Rate (max)(SPS): 40M; SFDR(dB): 42; SNR(dB): 44; SubFamily: High Speed ADC (>10MSPS); DatasheetVersion: SLAS105D; PackageVersion: 4040064-6/G, 02/2011; PackageReference: PW24; PackageDescription: 24-Pin Plastic Small Outline, Body 7.8 x 4.4 mm, Pitch 0.65 mm; Supplier 1: Digi-Key; Supplier Part Number 1: ADS8028IRTJR-ND; Supplier 2: Mouser; Supplier Part Number 2: 595-ADS8028IRTJR; Digital Supply(Max)(V): 5.25; Digital Supply(Min)(V): 4.75; Eco-Plan: Green (RoHS & no Sb/Br); INL(Max)(+/-LSB): 1; Mounting Technology: Surface Mount; Code_JEDEC: MO-153; ComponentLink1Description: Manufacturer URL; ComponentLink1URL: http://www.ti.com/; ComponentLink2Description: Datasheet; ComponentLink2URL: http://www.ti.com/general/docs/lit/getliterature.tsp?genericPartNumber=TLC5540&fileType=pdf; ComponentLink3Description: Package Specification; ComponentLink3URL: http://www.ti.com/litv/pdf/mpds363
footprint TI-PW24_N (SOP, 24-Leads, Body 7.8x4.4mm, Pitch 0.65mm, IPC Medium Density)
footprint TI-PW24_L (SOP, 24-Leads, Body 7.8x4.4mm, Pitch 0.65mm, IPC High Density)
footprint TI-PW24_M (SOP, 24-Leads, Body 7.8x4.4mm, Pitch 0.65mm, IPC Low Density)
pins: 1 ~{OE} (in) "Output enable. When O\E\ = low, data is enabled. When O\E\ = high, D1-D8 is in high-impedance state.", 2 DGND (power) "Digital ground", 3 D1 (hiz) "Digital data out. D1 = LSB", 4 D2 (hiz) "Digital data out.", 5 D3 (hiz) "Digital data out.", 6 D4 (hiz) "Digital data out.", 7 D5 (hiz) "Digital data out.", 8 D6 (hiz) "Digital data out.", 9 D7 (hiz) "Digital data out.", 10 D8 (hiz) "Digital data out. D8=MSB", 11 VDDD (power) "Digital supply voltage", 12 CLK (in) "Clock input", 13 VDDD (power) "Digital supply voltage", 14 VDDA (power) "Analog supply voltage", 15 VDDA (power) "Analog supply voltage", 16 REFTS "Reference voltage (top).", 17 REFT (in) "Reference voltage in top", 18 VDDA (power) "Analog supply voltage", 19 ANALOG IN (in) "Analog input", 20 AGND (power) "Analog ground", 21 AGND (power) "Analog ground", 22 REFBS "Reference voltage (bottom).", 23 REFB (in) "Reference voltage in bottom", 24 DGND (power) "Digital ground"

## TLC5540INSR
designator U?
8-Bit, 40 MSPS ADC Single Channel, Internal S&H, Low Power, -40 to 85 degC, 24-pin SOP (NS24), Green (RoHS & no Sb/Br); Manufacturer: Texas Instruments; PartNumber: TLC5540INSR; # Input Channels: 1; Analog Voltage AV/DD(Max)(V): 5.25; Analog Voltage AV/DD(Min)(V): 4.75; Architecture: Flash; ENOB(Bits): 6.8; Interface: Parallel CMOS; Resolution(Bits): 8; Sample Rate (max)(SPS): 40M; SFDR(dB): 42; SNR(dB): 44; SubFamily: High Speed ADC (>10MSPS); DatasheetVersion: SLAS105D; PackageVersion: 4040062/C, 03/2003; PackageReference: NS24; PackageDescription: 24-Pin Plastic Small-Outline Package, Body 15 x 5.3 mm, Pitch 1.27 mm; Supplier 1: Digi-Key; Supplier Part Number 1: 296-30382-2-ND; Supplier 2: Digi-Key; Supplier Part Number 2: 296-30382-1-ND; Supplier 3: Digi-Key; Supplier Part Number 3: 296-30382-6-ND; Supplier 4: Farnell; Supplier Part Number 4: 2099884; Supplier 5: Newark; Supplier Part Number 5: 05W5331; Supplier 6: Mouser; Supplier Part Number 6: 595-ADS8028IRTJT; Digital Supply(Max)(V): 5.25; Digital Supply(Min)(V): 4.75; Eco-Plan: Green (RoHS & no Sb/Br); INL(Max)(+/-LSB): 1; Mounting Technology: Surface Mount; ComponentLink1Description: Manufacturer URL; ComponentLink1URL: http://www.ti.com/; ComponentLink2Description: Datasheet; ComponentLink2URL: http://www.ti.com/general/docs/lit/getliterature.tsp?genericPartNumber=TLC5540&fileType=pdf; ComponentLink3Description: Package Specification; ComponentLink3URL: http://www.ti.com/litv/pdf/msop002a
footprint TI-NS24_N (SOP, 24-Leads, Body 15x5.3mm, Pitch 1.27mm, IPC Medium Density)
footprint TI-NS24_L (SOP, 24-Leads, Body 15x5.3mm, Pitch 1.27mm, IPC High Density)
footprint TI-NS24_M (SOP, 24-Leads, Body 15x5.3mm, Pitch 1.27mm, IPC Low Density)
pins: 1 ~{OE} (in) "Output enable. When O\E\ = low, data is enabled. When O\E\ = high, D1-D8 is in high-impedance state.", 2 DGND (power) "Digital ground", 3 D1 (hiz) "Digital data out. D1 = LSB", 4 D2 (hiz) "Digital data out.", 5 D3 (hiz) "Digital data out.", 6 D4 (hiz) "Digital data out.", 7 D5 (hiz) "Digital data out.", 8 D6 (hiz) "Digital data out.", 9 D7 (hiz) "Digital data out.", 10 D8 (hiz) "Digital data out. D8=MSB", 11 VDDD (power) "Digital supply voltage", 12 CLK (in) "Clock input", 13 VDDD (power) "Digital supply voltage", 14 VDDA (power) "Analog supply voltage", 15 VDDA (power) "Analog supply voltage", 16 REFTS "Reference voltage (top).", 17 REFT (in) "Reference voltage in top", 18 VDDA (power) "Analog supply voltage", 19 ANALOG IN (in) "Analog input", 20 AGND (power) "Analog ground", 21 AGND (power) "Analog ground", 22 REFBS "Reference voltage (bottom).", 23 REFB (in) "Reference voltage in bottom", 24 DGND (power) "Digital ground"

## TLC5540INSRG4
designator U?
8-Bit, 40 MSPS ADC Single Channel, Internal S&H, Low Power, -40 to 85 degC, 24-pin SOP (NS24), Green (RoHS & no Sb/Br); Manufacturer: Texas Instruments; PartNumber: TLC5540INSRG4; # Input Channels: 1; Analog Voltage AV/DD(Max)(V): 5.25; Analog Voltage AV/DD(Min)(V): 4.75; Architecture: Flash; ENOB(Bits): 6.8; Interface: Parallel CMOS; Resolution(Bits): 8; Sample Rate (max)(SPS): 40M; SFDR(dB): 42; SNR(dB): 44; SubFamily: High Speed ADC (>10MSPS); DatasheetVersion: SLAS105D; PackageVersion: 4040062/C, 03/2003; PackageReference: NS24; PackageDescription: 24-Pin Plastic Small-Outline Package, Body 15 x 5.3 mm, Pitch 1.27 mm; Digital Supply(Max)(V): 5.25; Digital Supply(Min)(V): 4.75; Eco-Plan: Green (RoHS & no Sb/Br); INL(Max)(+/-LSB): 1; Mounting Technology: Surface Mount; ComponentLink1Description: Manufacturer URL; ComponentLink1URL: http://www.ti.com/; ComponentLink2Description: Datasheet; ComponentLink2URL: http://www.ti.com/general/docs/lit/getliterature.tsp?genericPartNumber=TLC5540&fileType=pdf; ComponentLink3Description: Package Specification; ComponentLink3URL: http://www.ti.com/litv/pdf/msop002a
footprint TI-NS24_N (SOP, 24-Leads, Body 15x5.3mm, Pitch 1.27mm, IPC Medium Density)
footprint TI-NS24_L (SOP, 24-Leads, Body 15x5.3mm, Pitch 1.27mm, IPC High Density)
footprint TI-NS24_M (SOP, 24-Leads, Body 15x5.3mm, Pitch 1.27mm, IPC Low Density)
pins: 1 ~{OE} (in) "Output enable. When O\E\ = low, data is enabled. When O\E\ = high, D1-D8 is in high-impedance state.", 2 DGND (power) "Digital ground", 3 D1 (hiz) "Digital data out. D1 = LSB", 4 D2 (hiz) "Digital data out.", 5 D3 (hiz) "Digital data out.", 6 D4 (hiz) "Digital data out.", 7 D5 (hiz) "Digital data out.", 8 D6 (hiz) "Digital data out.", 9 D7 (hiz) "Digital data out.", 10 D8 (hiz) "Digital data out. D8=MSB", 11 VDDD (power) "Digital supply voltage", 12 CLK (in) "Clock input", 13 VDDD (power) "Digital supply voltage", 14 VDDA (power) "Analog supply voltage", 15 VDDA (power) "Analog supply voltage", 16 REFTS "Reference voltage (top).", 17 REFT (in) "Reference voltage in top", 18 VDDA (power) "Analog supply voltage", 19 ANALOG IN (in) "Analog input", 20 AGND (power) "Analog ground", 21 AGND (power) "Analog ground", 22 REFBS "Reference voltage (bottom).", 23 REFB (in) "Reference voltage in bottom", 24 DGND (power) "Digital ground"

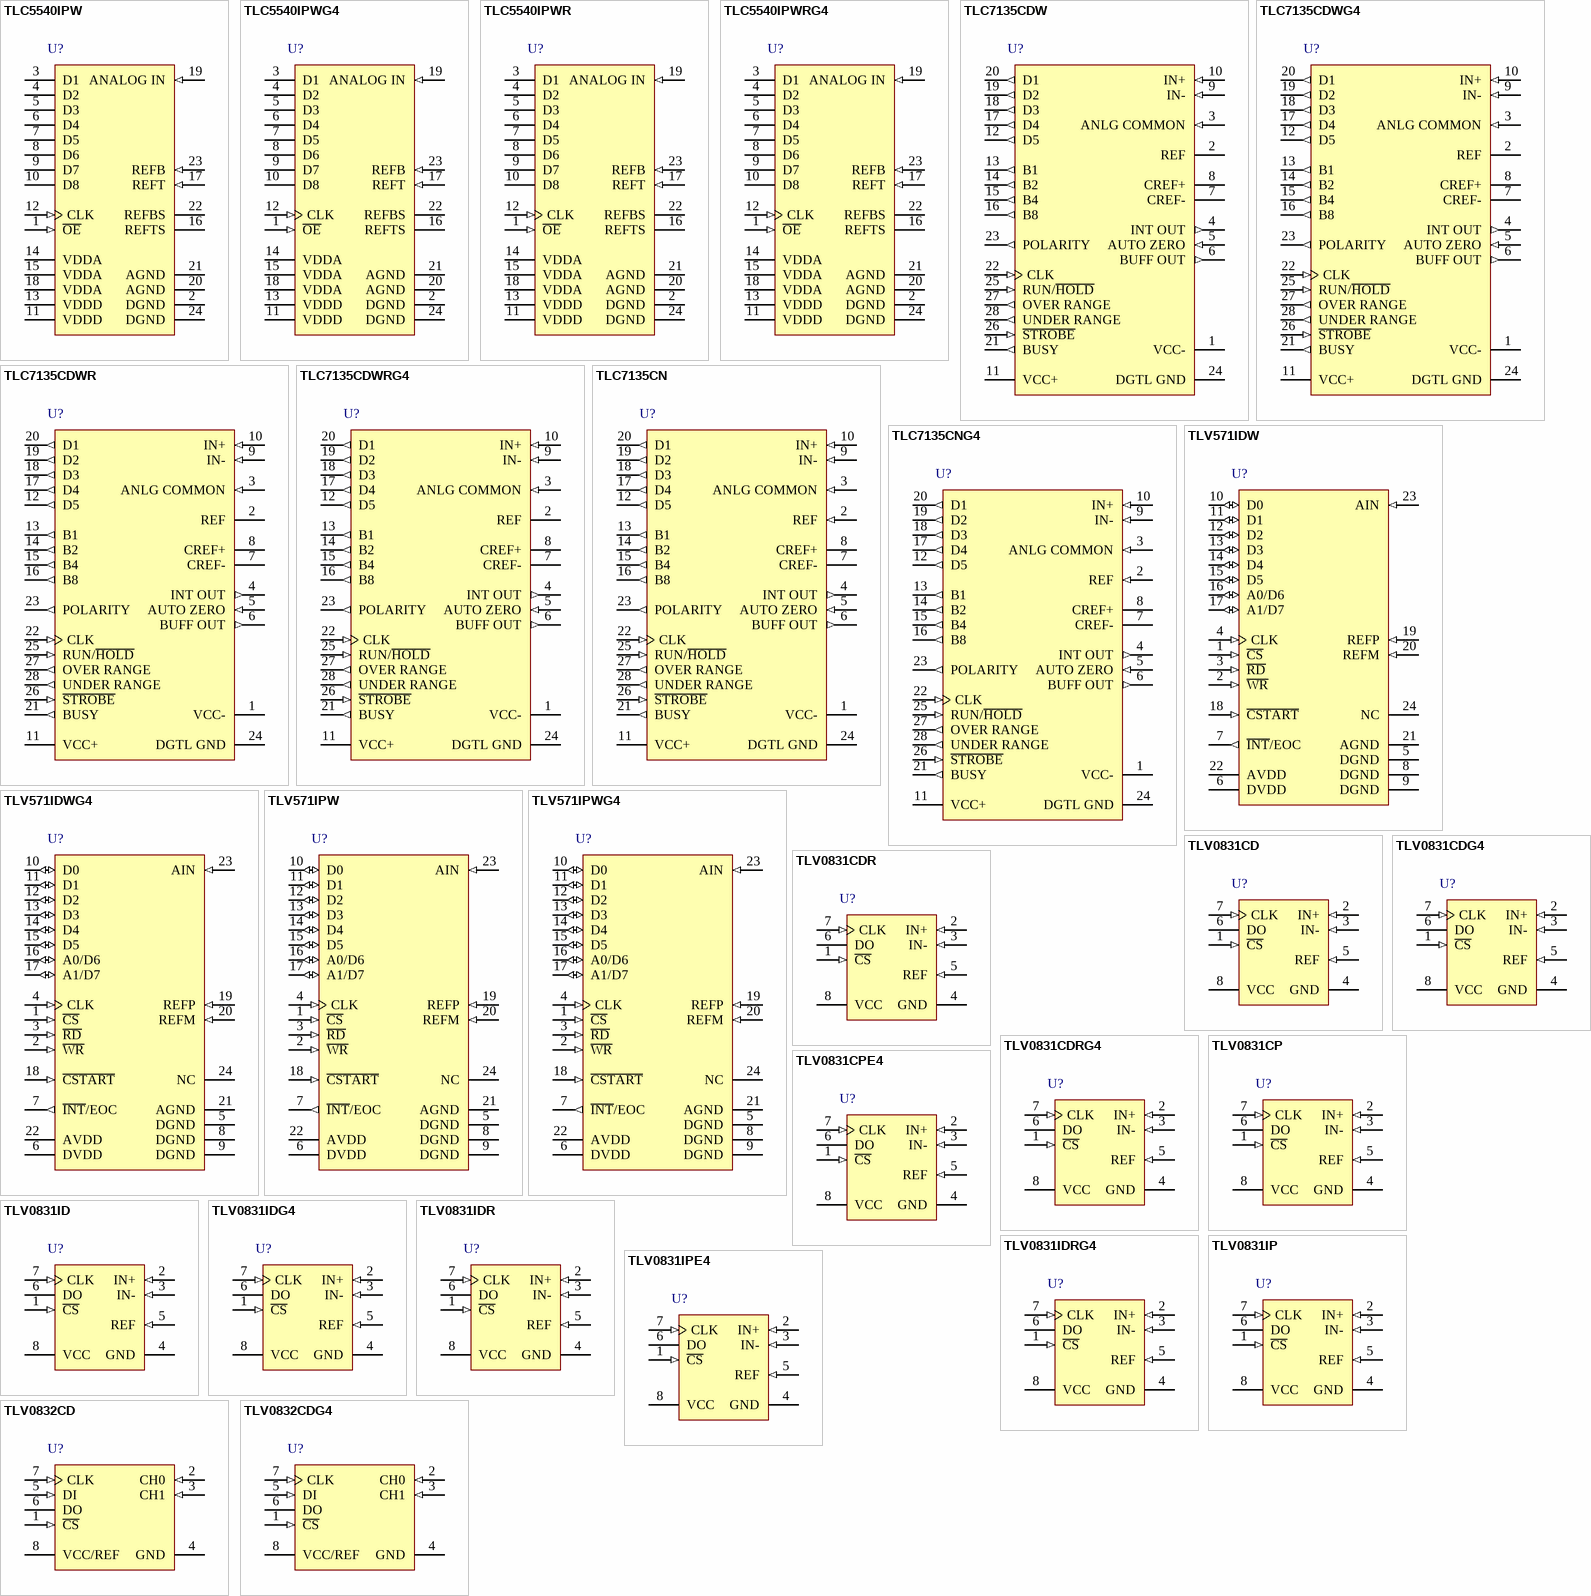
[diagram p115: symbols TLC5540IPW to TLV0832CDG4]

## TLC5540IPW
designator U?
8-Bit, 40 MSPS ADC Single Channel, Internal S&H, Low Power, -40 to 85 degC, 24-pin SOP (PW24), Green (RoHS & no Sb/Br); Manufacturer: Texas Instruments; PartNumber: TLC5540IPW; # Input Channels: 1; Analog Voltage AV/DD(Max)(V): 5.25; Analog Voltage AV/DD(Min)(V): 4.75; Architecture: Flash; ENOB(Bits): 6.8; Interface: Parallel CMOS; Resolution(Bits): 8; Sample Rate (max)(SPS): 40M; SFDR(dB): 42; SNR(dB): 44; SubFamily: High Speed ADC (>10MSPS); DatasheetVersion: SLAS105D; PackageVersion: 4040064-6/G, 02/2011; PackageReference: PW24; PackageDescription: 24-Pin Plastic Small Outline, Body 7.8 x 4.4 mm, Pitch 0.65 mm; Digital Supply(Max)(V): 5.25; Digital Supply(Min)(V): 4.75; Eco-Plan: Green (RoHS & no Sb/Br); INL(Max)(+/-LSB): 1; Mounting Technology: Surface Mount; Code_JEDEC: MO-153; ComponentLink1Description: Manufacturer URL; ComponentLink1URL: http://www.ti.com/; ComponentLink2Description: Datasheet; ComponentLink2URL: http://www.ti.com/general/docs/lit/getliterature.tsp?genericPartNumber=TLC5540&fileType=pdf; ComponentLink3Description: Package Specification; ComponentLink3URL: http://www.ti.com/litv/pdf/mpds363
footprint TI-PW24_N (SOP, 24-Leads, Body 7.8x4.4mm, Pitch 0.65mm, IPC Medium Density)
footprint TI-PW24_L (SOP, 24-Leads, Body 7.8x4.4mm, Pitch 0.65mm, IPC High Density)
footprint TI-PW24_M (SOP, 24-Leads, Body 7.8x4.4mm, Pitch 0.65mm, IPC Low Density)
pins: 1 ~{OE} (in) "Output enable. When O\E\ = low, data is enabled. When O\E\ = high, D1-D8 is in high-impedance state.", 2 DGND (power) "Digital ground", 3 D1 (hiz) "Digital data out. D1 = LSB", 4 D2 (hiz) "Digital data out.", 5 D3 (hiz) "Digital data out.", 6 D4 (hiz) "Digital data out.", 7 D5 (hiz) "Digital data out.", 8 D6 (hiz) "Digital data out.", 9 D7 (hiz) "Digital data out.", 10 D8 (hiz) "Digital data out. D8=MSB", 11 VDDD (power) "Digital supply voltage", 12 CLK (in) "Clock input", 13 VDDD (power) "Digital supply voltage", 14 VDDA (power) "Analog supply voltage", 15 VDDA (power) "Analog supply voltage", 16 REFTS "Reference voltage (top).", 17 REFT (in) "Reference voltage in top", 18 VDDA (power) "Analog supply voltage", 19 ANALOG IN (in) "Analog input", 20 AGND (power) "Analog ground", 21 AGND (power) "Analog ground", 22 REFBS "Reference voltage (bottom).", 23 REFB (in) "Reference voltage in bottom", 24 DGND (power) "Digital ground"

## TLC5540IPWG4
designator U?
8-Bit, 40 MSPS ADC Single Channel, Internal S&H, Low Power, -40 to 85 degC, 24-pin SOP (PW24), Green (RoHS & no Sb/Br); Manufacturer: Texas Instruments; PartNumber: TLC5540IPWG4; # Input Channels: 1; Analog Voltage AV/DD(Max)(V): 5.25; Analog Voltage AV/DD(Min)(V): 4.75; Architecture: Flash; ENOB(Bits): 6.8; Interface: Parallel CMOS; Resolution(Bits): 8; Sample Rate (max)(SPS): 40M; SFDR(dB): 42; SNR(dB): 44; SubFamily: High Speed ADC (>10MSPS); DatasheetVersion: SLAS105D; PackageVersion: 4040064-6/G, 02/2011; PackageReference: PW24; PackageDescription: 24-Pin Plastic Small Outline, Body 7.8 x 4.4 mm, Pitch 0.65 mm; Supplier 1: Digi-Key; Supplier Part Number 1: 296-13366-5-ND; Supplier 2: Newark; Supplier Part Number 2: 76C8374; Supplier 3: Mouser; Supplier Part Number 3: 595-TLV2548QDW; Digital Supply(Max)(V): 5.25; Digital Supply(Min)(V): 4.75; Eco-Plan: Green (RoHS & no Sb/Br); INL(Max)(+/-LSB): 1; Mounting Technology: Surface Mount; Code_JEDEC: MO-153; ComponentLink1Description: Manufacturer URL; ComponentLink1URL: http://www.ti.com/; ComponentLink2Description: Datasheet; ComponentLink2URL: http://www.ti.com/general/docs/lit/getliterature.tsp?genericPartNumber=TLC5540&fileType=pdf; ComponentLink3Description: Package Specification; ComponentLink3URL: http://www.ti.com/litv/pdf/mpds363
footprint TI-PW24_N (SOP, 24-Leads, Body 7.8x4.4mm, Pitch 0.65mm, IPC Medium Density)
footprint TI-PW24_L (SOP, 24-Leads, Body 7.8x4.4mm, Pitch 0.65mm, IPC High Density)
footprint TI-PW24_M (SOP, 24-Leads, Body 7.8x4.4mm, Pitch 0.65mm, IPC Low Density)
pins: 1 ~{OE} (in) "Output enable. When O\E\ = low, data is enabled. When O\E\ = high, D1-D8 is in high-impedance state.", 2 DGND (power) "Digital ground", 3 D1 (hiz) "Digital data out. D1 = LSB", 4 D2 (hiz) "Digital data out.", 5 D3 (hiz) "Digital data out.", 6 D4 (hiz) "Digital data out.", 7 D5 (hiz) "Digital data out.", 8 D6 (hiz) "Digital data out.", 9 D7 (hiz) "Digital data out.", 10 D8 (hiz) "Digital data out. D8=MSB", 11 VDDD (power) "Digital supply voltage", 12 CLK (in) "Clock input", 13 VDDD (power) "Digital supply voltage", 14 VDDA (power) "Analog supply voltage", 15 VDDA (power) "Analog supply voltage", 16 REFTS "Reference voltage (top).", 17 REFT (in) "Reference voltage in top", 18 VDDA (power) "Analog supply voltage", 19 ANALOG IN (in) "Analog input", 20 AGND (power) "Analog ground", 21 AGND (power) "Analog ground", 22 REFBS "Reference voltage (bottom).", 23 REFB (in) "Reference voltage in bottom", 24 DGND (power) "Digital ground"

## TLC5540IPWR
designator U?
8-Bit, 40 MSPS ADC Single Channel, Internal S&H, Low Power, -40 to 85 degC, 24-pin SOP (PW24), Green (RoHS & no Sb/Br); Manufacturer: Texas Instruments; PartNumber: TLC5540IPWR; # Input Channels: 1; Analog Voltage AV/DD(Max)(V): 5.25; Analog Voltage AV/DD(Min)(V): 4.75; Architecture: Flash; ENOB(Bits): 6.8; Interface: Parallel CMOS; Resolution(Bits): 8; Sample Rate (max)(SPS): 40M; SFDR(dB): 42; SNR(dB): 44; SubFamily: High Speed ADC (>10MSPS); DatasheetVersion: SLAS105D; PackageVersion: 4040064-6/G, 02/2011; PackageReference: PW24; PackageDescription: 24-Pin Plastic Small Outline, Body 7.8 x 4.4 mm, Pitch 0.65 mm; Supplier 1: Digi-Key; Supplier Part Number 1: TLV2548QDWG4-ND; Supplier 2: Mouser; Supplier Part Number 2: 595-TLV2548QDWG4; Digital Supply(Max)(V): 5.25; Digital Supply(Min)(V): 4.75; Eco-Plan: Green (RoHS & no Sb/Br); INL(Max)(+/-LSB): 1; Mounting Technology: Surface Mount; Code_JEDEC: MO-153; ComponentLink1Description: Manufacturer URL; ComponentLink1URL: http://www.ti.com/; ComponentLink2Description: Datasheet; ComponentLink2URL: http://www.ti.com/general/docs/lit/getliterature.tsp?genericPartNumber=TLC5540&fileType=pdf; ComponentLink3Description: Package Specification; ComponentLink3URL: http://www.ti.com/litv/pdf/mpds363
footprint TI-PW24_N (SOP, 24-Leads, Body 7.8x4.4mm, Pitch 0.65mm, IPC Medium Density)
footprint TI-PW24_L (SOP, 24-Leads, Body 7.8x4.4mm, Pitch 0.65mm, IPC High Density)
footprint TI-PW24_M (SOP, 24-Leads, Body 7.8x4.4mm, Pitch 0.65mm, IPC Low Density)
pins: 1 ~{OE} (in) "Output enable. When O\E\ = low, data is enabled. When O\E\ = high, D1-D8 is in high-impedance state.", 2 DGND (power) "Digital ground", 3 D1 (hiz) "Digital data out. D1 = LSB", 4 D2 (hiz) "Digital data out.", 5 D3 (hiz) "Digital data out.", 6 D4 (hiz) "Digital data out.", 7 D5 (hiz) "Digital data out.", 8 D6 (hiz) "Digital data out.", 9 D7 (hiz) "Digital data out.", 10 D8 (hiz) "Digital data out. D8=MSB", 11 VDDD (power) "Digital supply voltage", 12 CLK (in) "Clock input", 13 VDDD (power) "Digital supply voltage", 14 VDDA (power) "Analog supply voltage", 15 VDDA (power) "Analog supply voltage", 16 REFTS "Reference voltage (top).", 17 REFT (in) "Reference voltage in top", 18 VDDA (power) "Analog supply voltage", 19 ANALOG IN (in) "Analog input", 20 AGND (power) "Analog ground", 21 AGND (power) "Analog ground", 22 REFBS "Reference voltage (bottom).", 23 REFB (in) "Reference voltage in bottom", 24 DGND (power) "Digital ground"

## TLC5540IPWRG4
designator U?
8-Bit, 40 MSPS ADC Single Channel, Internal S&H, Low Power, -40 to 85 degC, 24-pin SOP (PW24), Green (RoHS & no Sb/Br); Manufacturer: Texas Instruments; PartNumber: TLC5540IPWRG4; # Input Channels: 1; Analog Voltage AV/DD(Max)(V): 5.25; Analog Voltage AV/DD(Min)(V): 4.75; Architecture: Flash; ENOB(Bits): 6.8; Interface: Parallel CMOS; Resolution(Bits): 8; Sample Rate (max)(SPS): 40M; SFDR(dB): 42; SNR(dB): 44; SubFamily: High Speed ADC (>10MSPS); DatasheetVersion: SLAS105D; PackageVersion: 4040064-6/G, 02/2011; PackageReference: PW24; PackageDescription: 24-Pin Plastic Small Outline, Body 7.8 x 4.4 mm, Pitch 0.65 mm; Supplier 1: Digi-Key; Supplier Part Number 1: TLV2548QDWR-ND; Supplier 2: Mouser; Supplier Part Number 2: 595-TLV2548QDWR; Digital Supply(Max)(V): 5.25; Digital Supply(Min)(V): 4.75; Eco-Plan: Green (RoHS & no Sb/Br); INL(Max)(+/-LSB): 1; Mounting Technology: Surface Mount; Code_JEDEC: MO-153; ComponentLink1Description: Manufacturer URL; ComponentLink1URL: http://www.ti.com/; ComponentLink2Description: Datasheet; ComponentLink2URL: http://www.ti.com/general/docs/lit/getliterature.tsp?genericPartNumber=TLC5540&fileType=pdf; ComponentLink3Description: Package Specification; ComponentLink3URL: http://www.ti.com/litv/pdf/mpds363
footprint TI-PW24_N (SOP, 24-Leads, Body 7.8x4.4mm, Pitch 0.65mm, IPC Medium Density)
footprint TI-PW24_L (SOP, 24-Leads, Body 7.8x4.4mm, Pitch 0.65mm, IPC High Density)
footprint TI-PW24_M (SOP, 24-Leads, Body 7.8x4.4mm, Pitch 0.65mm, IPC Low Density)
pins: 1 ~{OE} (in) "Output enable. When O\E\ = low, data is enabled. When O\E\ = high, D1-D8 is in high-impedance state.", 2 DGND (power) "Digital ground", 3 D1 (hiz) "Digital data out. D1 = LSB", 4 D2 (hiz) "Digital data out.", 5 D3 (hiz) "Digital data out.", 6 D4 (hiz) "Digital data out.", 7 D5 (hiz) "Digital data out.", 8 D6 (hiz) "Digital data out.", 9 D7 (hiz) "Digital data out.", 10 D8 (hiz) "Digital data out. D8=MSB", 11 VDDD (power) "Digital supply voltage", 12 CLK (in) "Clock input", 13 VDDD (power) "Digital supply voltage", 14 VDDA (power) "Analog supply voltage", 15 VDDA (power) "Analog supply voltage", 16 REFTS "Reference voltage (top).", 17 REFT (in) "Reference voltage in top", 18 VDDA (power) "Analog supply voltage", 19 ANALOG IN (in) "Analog input", 20 AGND (power) "Analog ground", 21 AGND (power) "Analog ground", 22 REFBS "Reference voltage (bottom).", 23 REFB (in) "Reference voltage in bottom", 24 DGND (power) "Digital ground"